# Altium schematic symbol library NE555.Schlib: 1 symbol
Pins are listed as number, name and electrical type; pins without a type are passive.

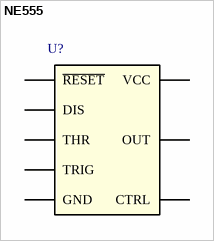
[diagram p0: symbol NE555]

## NE555
designator U?  (value not drawn)
pins: 1 GND, 2 TRIG, 3 OUT, 4 ~{RESET}, 5 CTRL, 6 THR, 7 DIS, 8 VCC